# EAGLE library part AVRISP6 (library AWJLEagleLib)
Atmel AVR 6-pin ISP header
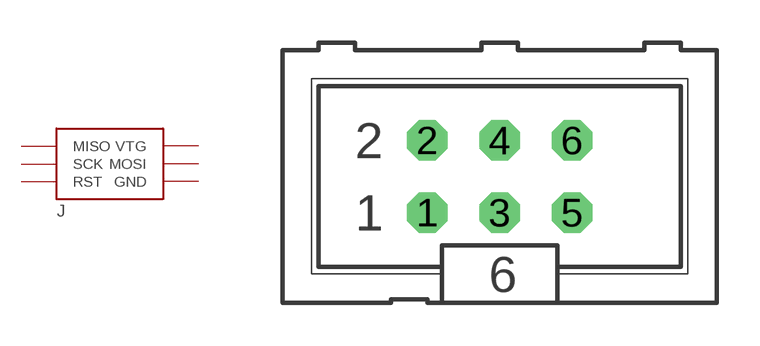
[diagram p20: symbol with the pads of ML6; footprint ML6]

Designator prefix J

## AVRISP6  [ML6]
1  MISO
2  VTG
3  SCK
4  MOSI
5  RST
6  GND

## Footprint ML6 (pad centres in mm)
drill 0.914 octagon: 1 -2.54,-1.27; 2 -2.54,1.27; 3 0,-1.27; 4 0,1.27; 5 2.54,-1.27; 6 2.54,1.27